# EAGLE library part TDA8924TH (library Audio-Power-amlifier V.2.0)
The TDA8924 is a high efficiency class-D audio power amplifier with very low dissipation. The typical output power is 2 ´ 120 W. The device comes in a HSOP24 power package with a small internal heatsink. Depending on supply voltage and load conditions a very small or even no external heatsink is required. The amplifier operates over a wide supply voltage range from ±12.5 V to ±30 V and consumes a very low quiescent current.
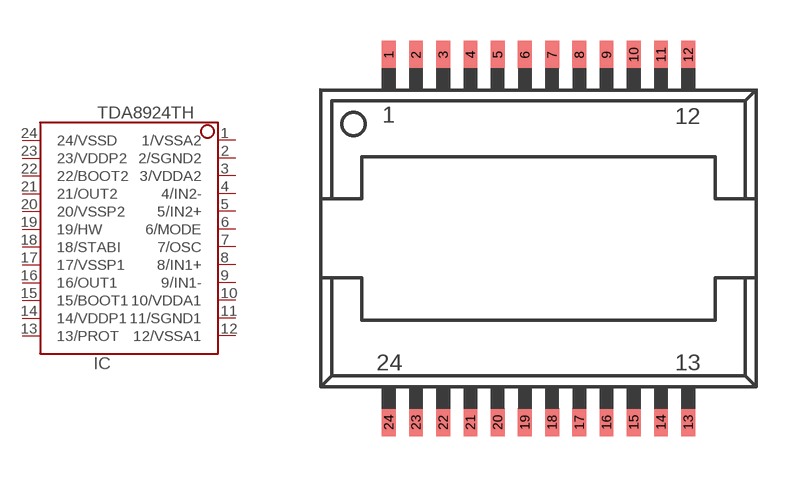
[diagram p170: symbol with the pads of SOT566-3; footprint SOT566-3]

Designator prefix IC

## TDA8924TH  [SOT566-3]
1  1/VSSA2  pwr
2  2/SGND2  pwr
3  3/VDDA2  pwr
4  4/IN2-  in
5  5/IN2+  in
6  6/MODE  in
7  7/OSC  in
8  8/IN1+  in
9  9/IN1-  in
10  10/VDDA1  pwr
11  11/SGND1  pwr
12  12/VSSA1  pwr
13  13/PROT
14  14/VDDP1  pwr
15  15/BOOT1
16  16/OUT1  out
17  17/VSSP1  pwr
18  18/STABI
19  19/HW
20  20/VSSP2  pwr
21  21/OUT2  out
22  22/BOOT2
23  23/VDDP2  pwr
24  24/VSSD  pwr

## Footprint SOT566-3 (pad centres in mm)
smd 0.508 x 1.016: 1 -5.5,6.75; 2 -4.5,6.75; 3 -3.5,6.75; 4 -2.5,6.75; 5 -1.5,6.75; 6 -0.5,6.75; 7 0.5,6.75; 8 1.5,6.75; 9 2.5,6.75; 10 3.5,6.75; 11 4.5,6.75; 12 5.5,6.75; 13 5.5,-6.75; 14 4.5,-6.75; 15 3.5,-6.75; 16 2.5,-6.75; 17 1.5,-6.75; 18 0.5,-6.75; 19 -0.5,-6.75; 20 -1.5,-6.75; 21 -2.5,-6.75; 22 -3.5,-6.75; 23 -4.5,-6.75; 24 -5.5,-6.75